# Altium footprint library cui-connectors.PcbLib: 2 footprints
Each footprint in its own frame and in the unit in brackets; x right, y up, seen from the top. Pads: shape width x height; smd on the part's side, far side on the other; paste and mask are expansions set on the pad; w line width, h text height; cw(c..) or ccw(c..) is an arc to the next point about the centre after c.
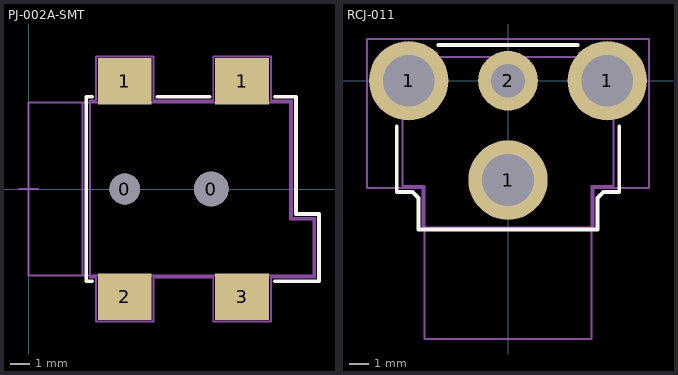
[diagram p0: the footprints below, top view; thin cyan lines are the x and y axes]

## PJ-002A-SMT [mm] "2.0mm Surface Mount Power Jack"
height 11
pads (6):
  round 1.6 hole 1.6 unplated: 0(5,0)
  round 1.8 hole 1.8 unplated: 0(9.5,0)
  rect 2.8x2.4 smd: 1(5,5.6) 1(11.1,5.6) 2(5,-5.6) 3(11.1,-5.6)
Top Overlay:
  lines w0.2: 3.3,-4.8 3,-4.8 3,4.8 3.3,4.8 ; 6.7,4.8 9.4,4.8 ; 12.8,-4.8 15.1,-4.8 15.1,-1.3 13.9,-1.3 13.9,4.8 12.8,4.8
Mechanical 13:
  lines w0.1: -0.5,0 0.5,0 ; 0,-0.5 0,0.5 ; 2.8,-4.475 2.8,4.45 ; 13.6,-1.6 13.6,4.5 ; 13.6,-1.6 14.5,-1.6 14.8,-1.6 14.8,-4.5 0,-4.5 0,4.5 13.6,4.5 ; 13.6,-1.6 13.6,-1.6 ; 13.6,4.5 13.6,4.5
Mechanical 15:
  lines w0.1: 3.2,-4.6 3.2,4.6 3.5,4.6 3.5,6.9 6.5,6.9 6.5,4.6 9.6,4.6 9.6,6.9 12.6,6.9 12.6,4.6 13.7,4.6 13.7,-1.5 14.9,-1.5 14.9,-4.6 12.6,-4.6 12.6,-6.9 9.6,-6.9 9.6,-4.6 6.5,-4.6 6.5,-6.9 3.5,-6.9 3.5,-4.6 3.2,-4.6
  text ".Designator" at 9.975,-0.225 h0.5
3D body: height 11.22, standoff -0.98, extent 0,-6.3 14.8,6.3

## RCJ-011 [mm] "RCA Connector"
height 12
pads (4):
  round 4 hole 2.6: 1(-5,0) 1(0,-5) 1(5,0)
  round 3 hole 1.7: 2(0,0)
Top Overlay:
  lines w0.2: -5.6,-2.3 -5.6,-5.6 -4.8,-5.6 -4.5,-5.9 -4.5,-7.5 4.5,-7.5 4.5,-5.9 4.8,-5.6 5.6,-5.6 5.6,-2.3 ; -3.5,1.8 3.5,1.8
Mechanical 13:
  lines w0.1: -0.5,0 0.5,0 ; 0,-0.5 0,0.5 ; -5.3,-5.3 -5.3,1.2 5.3,1.2 5.3,-5.3 4.2,-5.3 4.2,-13 -4.2,-13 -4.2,-5.3 -5.3,-5.3
Mechanical 15:
  lines w0.1: -7.1,-5.4 -7.1,2.1 7.1,2.1 7.1,-5.4 4.3,-5.4 4.3,-7.4 -4.3,-7.4 -4.3,-5.4 -7.1,-5.4
  text ".Designator" at -1.925,-2.525 h0.5
3D body: height 12.1, standoff -4.1, extent -5.8,-13.25 5.8,1.25